# Altium footprint library slide_switch.PcbLib: 2 footprints
Each footprint in its own frame and in the unit in brackets; x right, y up, seen from the top. Pads: shape width x height; smd on the part's side, far side on the other; paste and mask are expansions set on the pad; w line width, h text height; cw(c..) or ccw(c..) is an arc to the next point about the centre after c.
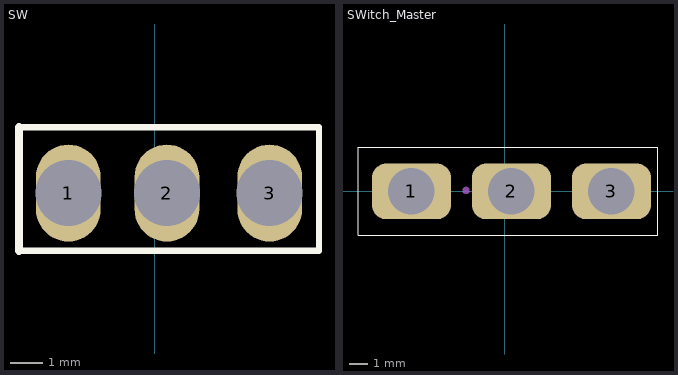
[diagram p0: the footprints below, top view; thin cyan lines are the x and y axes]

## SW [mm]
pads (3):
  oval 2x3 hole 2.038: 1(-2.667,-6.35) 2(0.381,-6.35) 3(3.556,-6.35)
Top Overlay:
  lines w0.2: -4.191,-8.128 5.08,-8.128 5.08,-4.318 -4.191,-4.318
  lines w0.254: -4.191,-8.128 -4.191,-4.318
3D body "switch small.stp": height 11.5, standoff 0, extent -3.894,-8.091 4.656,-4.191

## SWitch_Master [mil]
pads (3):
  rrect50% 170x120 hole 100 square: 1(-200,0) 2(15,0) 3(230,0)
Top Overlay:
  lines w1.97: -315,-94.49 -315,94.49 -179.13,94.49 179.13,94.49 330,94.49 330,-94.49 200,-94.49 -205,-94.49 -315,-94.49
Bottom Overlay:
  lines w10: -250,-95 -250,105 285,105 285,-95 -250,-95
Mechanical 1:
  circle w7.87: c-82.68,1.97 r3.94
3D body "toggle_switch.STEP": height 1054.34, standoff -321.26, extent -250,-213.46 265.75,255